# Altium schematic symbol library CAP-SM-0805-X7R-4.7uF.Schlib: 1 symbol
Pins are listed as number, name and electrical type; pins without a type are passive.

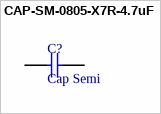
[diagram p0: symbol CAP-SM-0805-X7R-4.7uF]

## CAP-SM-0805-X7R-4.7uF
designator C?, comment Cap Semi
CAP SM 0805 X7R 4.7uF 10%
pins: 1, 2